# Altium footprint library SIP8.PcbLib: 1 footprints
Each footprint in its own frame and in the unit in brackets; x right, y up, seen from the top. Pads: shape width x height; smd on the part's side, far side on the other; paste and mask are expansions set on the pad; w line width, h text height; cw(c..) or ccw(c..) is an arc to the next point about the centre after c.
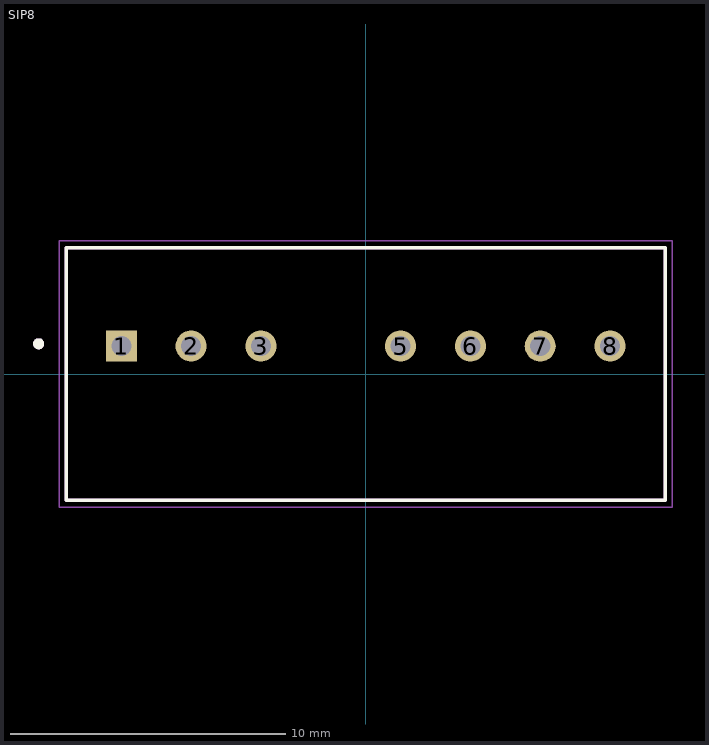
[diagram p0: the footprint, top view; thin cyan lines are the x and y axes]

## SIP8 [mm]
pads (7):
  rect 1.13x1.13 hole 0.73: 1(-8.89,1.016)
  round 1.13 hole 0.73: 2(-6.35,1.016) 3(-3.81,1.016) 5(1.27,1.016) 6(3.81,1.016) 7(6.35,1.016) 8(8.89,1.016)
Top Overlay:
  circle w0.2: c-11.9,1.1 r0.1
  lines w0.127: -10.9,-4.6 10.9,-4.6 10.9,4.6 -10.9,4.6 -10.9,-4.6
Mechanical 13:
  circle w0.2: c-11.9,1.1 r0.1
  lines w0.127: -10.9,-4.6 10.9,-4.6 10.9,4.6 -10.9,4.6 -10.9,-4.6
Mechanical 15:
  lines w0.05: -11.15,-4.85 11.15,-4.85 11.15,4.85 -11.15,4.85 -11.15,-4.85
3D body "step_temp.STEP": height 10.6, standoff -4.6, extent -10.9,-4.6 10.9,4.6